# EAGLE library part LTC4412ES6#TRMPBF (library SamacSys_Parts)
Hot Swap Controller LTC4412ES6#TRMPBF, Positive Voltage, 2.5 28 V, TSOT-23, 6-Pin Source: Datasheet <http://cds.linear.com/docs/en/datasheet/4412fb.pdf>
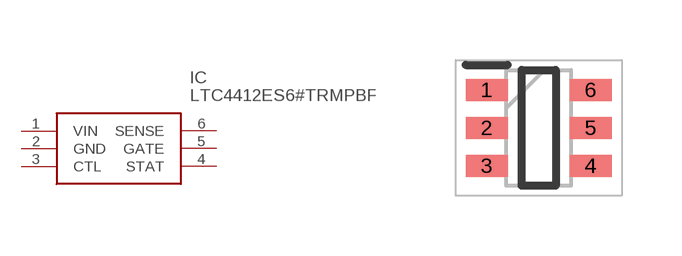
[diagram p25: symbol with the pads of SOT95P280X100-6N; footprint SOT95P280X100-6N]

Designator prefix IC

## LTC4412ES6#TRMPBF (DESCRIPTION: Hot Swap Controller LTC4412ES6#TRMPBF, Positive Voltage, 2.5 28 V, TSOT-23, 6-Pin; HEIGHT: 1mm; MANUFACTURER_NAME: Linear Technology; MANUFACTURER_PART_NUMBER: LTC4412ES6#TRMPBF; MOUSER_PART_NUMBER: 584-LTC4412ES6TRMPBF; MOUSER_PRICE-STOCK: https://www.mouser.co.uk/ProductDetail/Analog-Devices-Linear-Technology/LTC4412ES6TRMPBF?qs=hVkxg5c3xu8vBeVp9%252BXk%252Bg%3D%3D)  [SOT95P280X100-6N]
1  VIN
2  GND
3  CTL
4  STAT
5  GATE
6  SENSE

## Footprint SOT95P280X100-6N (pad centres in mm)
S6 Package 6-Lead Plastic TSOT-23
smd 1.05 x 0.55: 1 -1.3,0.95; 2 -1.3,0; 3 -1.3,-0.95; 4 1.3,-0.95; 5 1.3,0; 6 1.3,0.95